# EAGLE library part AD8027 (library ds_ic_opa)
Low Distortion, High Speed Rail-to-Rail Input/Output Amplifiers
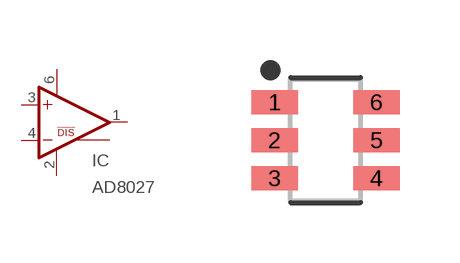
[diagram p6: symbol with the pads of SOT95P280X145-6N; footprint SOT95P280X145-6N]

Designator prefix IC

## AD8027  [SOT95P280X145-6N]
1  OUT  out
2  V-  pwr
3  +IN  in
4  -IN  in
5  !DIS
6  V+  pwr

## Footprint SOT95P280X145-6N (pad centres in mm)
6-SOT23, 0.95 mm pitch, 2.80 mm span, 2.92 X 1.63 X 1.45 mm body 6-pin SOT23 package with 0.95 mm pitch, 2.80 mm span with body size 2.92 X 1.63 X 1.45 mm
smd 1.165 x 0.597: 1 -1.275,0.95; 2 -1.275,0; 3 -1.275,-0.95; 4 1.275,-0.95; 5 1.275,0; 6 1.275,0.95